# EAGLE library part LSM6DSO (library LSM6DSO)
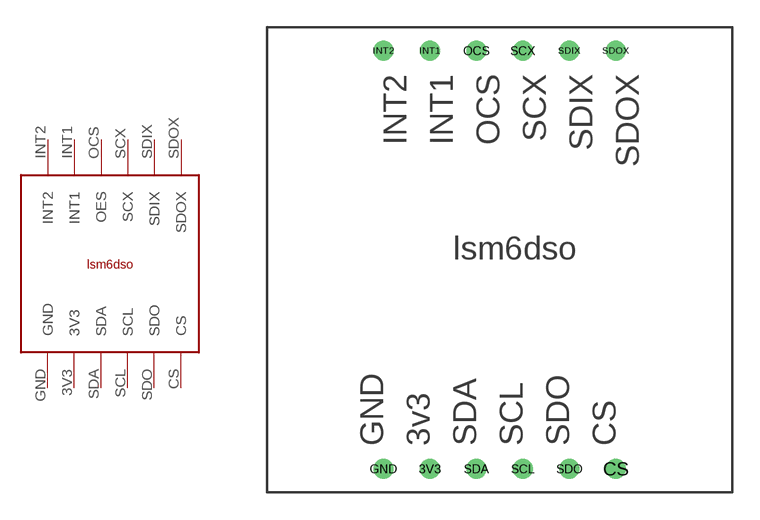
[diagram p0: symbol with the pads of LSM6DSO; footprint LSM6DSO]

Designator prefix -

## LSM6DSO  [LSM6DSO]
3V3  3V3
CS  CS
GND  GND
INT1  INT1
INT2  INT2
OCS  OES
SCL  SCL
SCX  SCX
SDA  SDA
SDIX  SDIX
SDO  SDO
SDOX  SDOX

## Footprint LSM6DSO (pad centres in mm)
drill 0.6: 3V3 -16.51,1.27; CS -6.35,1.27; GND -19.05,1.27; INT1 -16.51,24.13; INT2 -19.05,24.13; OCS -13.97,24.13; SCL -11.43,1.27; SCX -11.43,24.13; SDA -13.97,1.27; SDIX -8.89,24.13; SDO -8.89,1.27; SDOX -6.35,24.13